# Altium schematic symbol library DUALDIODE_CC_SOT23_SHTKY.SchLib: 1 symbol
Pins are listed as number, name and electrical type; pins without a type are passive.

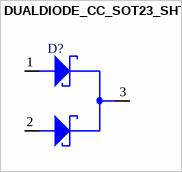
[diagram p0: symbol DUALDIODE_CC_SOT23_SHTKY]

## DUALDIODE_CC_SOT23_SHTKY
designator D?
DIODE SCH DUAL CC 200MA 30V SOT23
pins: 1 A1, 2 A2, 3 C